# Altium footprint library USB_Micro_B.PcbLib: 2 footprints
Each footprint in its own frame and in the unit in brackets; x right, y up, seen from the top. Pads: shape width x height; smd on the part's side, far side on the other; paste and mask are expansions set on the pad; w line width, h text height; cw(c..) or ccw(c..) is an arc to the next point about the centre after c.
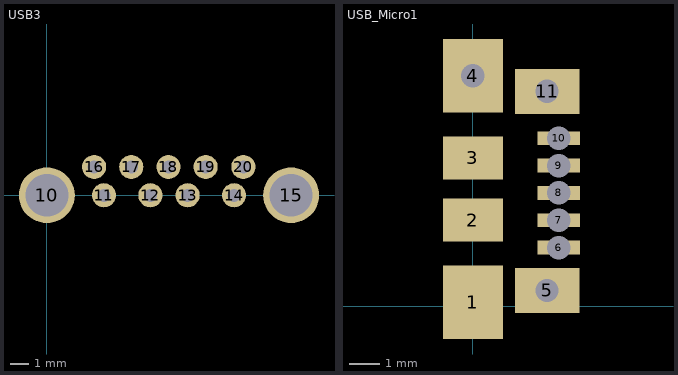
[diagram p0: the footprints below, top view; thin cyan lines are the x and y axes]

## USB3 [mm]
pads (11):
  round 3 hole 2.3: 10(0,0) 15(13.14,0)
  round 1.3 hole 0.7: 11(3.07,0) 12(5.57,0) 13(7.57,0) 14(10.07,0) 16(2.54,1.524) 17(4.54,1.524) 18(6.54,1.524) 19(8.54,1.524) 20(10.57,1.524)

## USB_Micro1 [mil]
pads (11):
  rect 76.77x94.29 all layers, no hole: 1(0,5)
  rect 76.77x55.12 all layers, no hole: 2(0,110) 3(0,190)
  rect 76.77x94.29 hole 30: 4(0,295)
  rect 82.68x57.87 hole 30: 5(95,20) 11(95,275)
  rect 54.33x17.72 hole 30: 6(110,75) 7(110,110) 8(110,145) 9(110,180) 10(110,215)